# Altium footprint library 2440PCBV5_20140403.PcbLib: 166 footprints (part 1 of 11)
Each footprint in its own frame and in the unit in brackets; x right, y up, seen from the top. Pads: shape width x height; smd on the part's side, far side on the other; paste and mask are expansions set on the pad; w line width, h text height; cw(c..) or ccw(c..) is an arc to the next point about the centre after c.
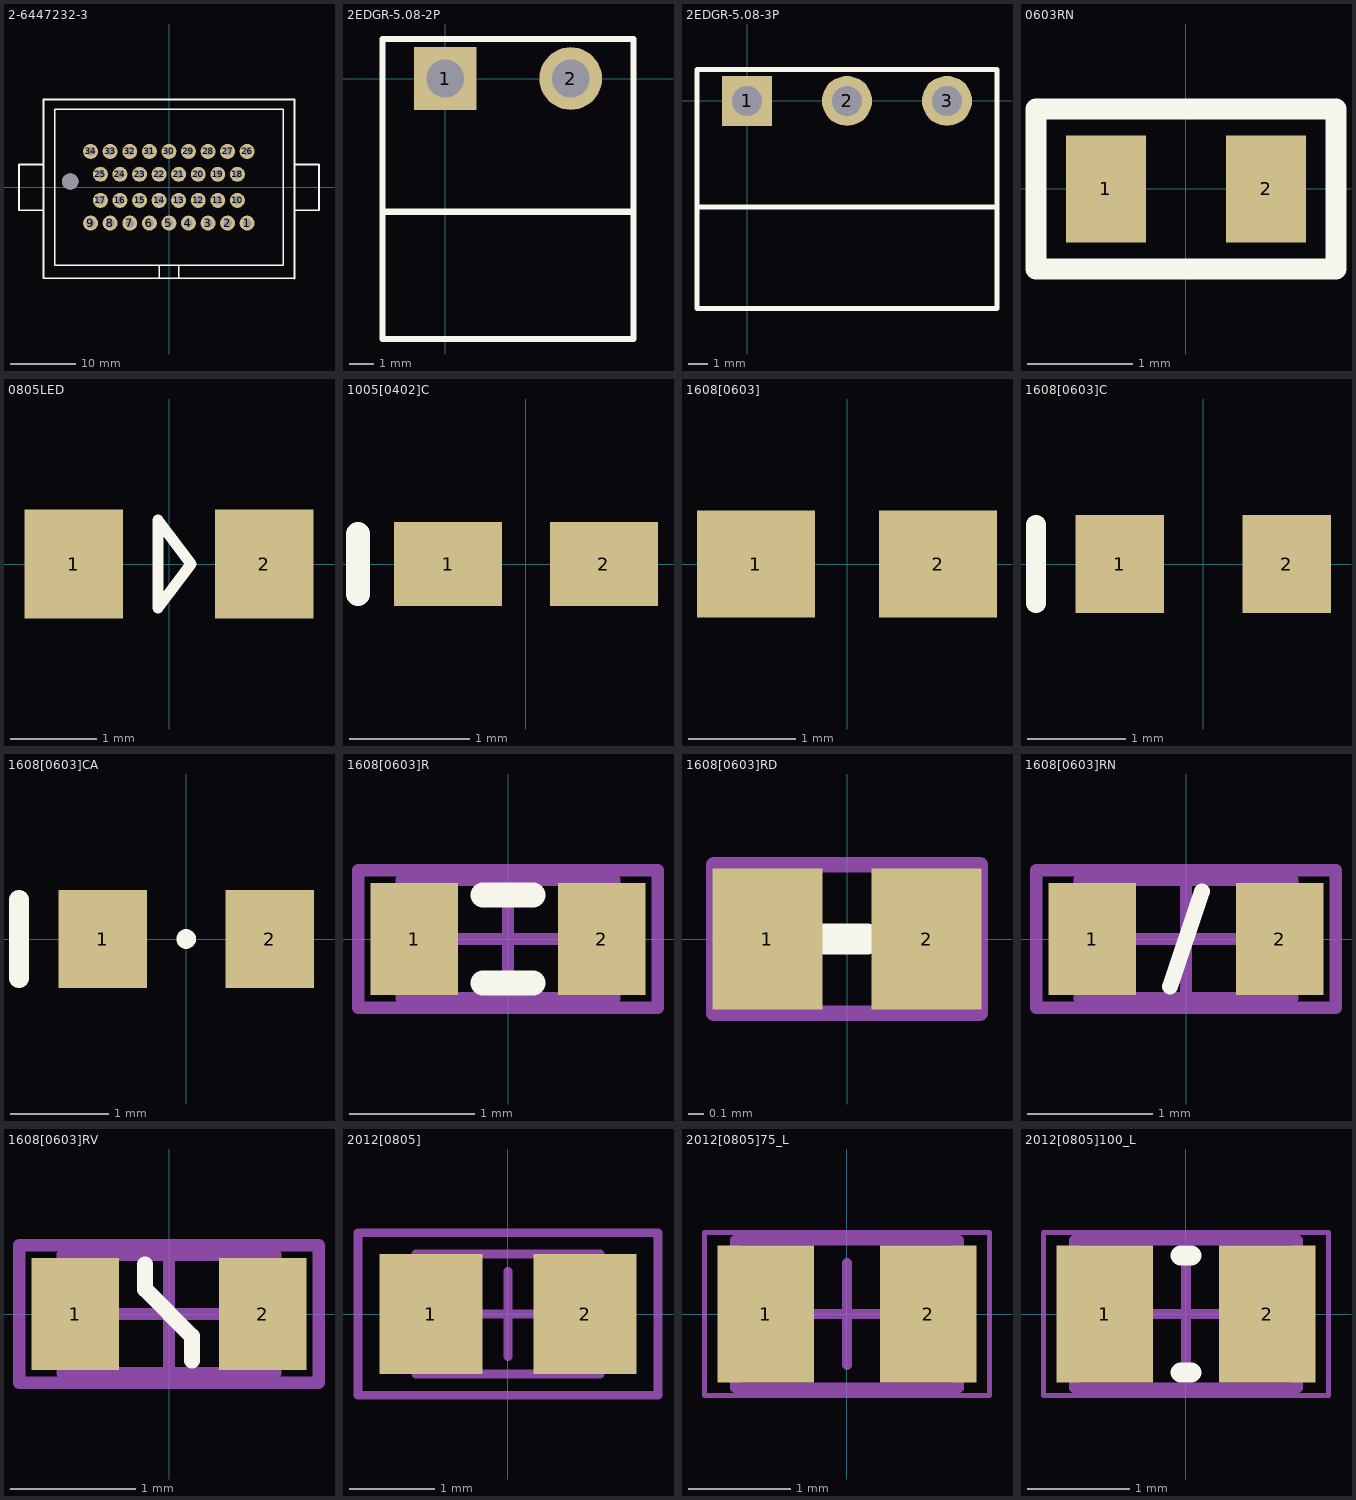
[diagram p0: the footprints below, top view; thin cyan lines are the x and y axes]

## 2-6447232-3 [mm]
pads (35):
  round 2.3 hole 1.3: 1(11.982,-5.5) 2(8.982,-5.5) 3(5.982,-5.5) 4(2.982,-5.5) 5(-0.018,-5.5) 6(-3.018,-5.5) 7(-6.018,-5.5) 8(-9.018,-5.5) 9(-12.018,-5.5) 10(10.482,-2) 11(7.482,-2) 12(4.482,-2) 13(1.482,-2) 14(-1.518,-2) 15(-4.518,-2) 16(-7.518,-2) 17(-10.518,-2) 18(10.482,2) 19(7.482,2) 20(4.482,2) 21(1.482,2) 22(-1.518,2) 23(-4.518,2) 24(-7.518,2) 25(-10.518,2) 26(11.982,5.5) 27(8.982,5.5) 28(5.982,5.5) 29(2.982,5.5) 30(-0.018,5.5) 31(-3.018,5.5) 32(-6.018,5.5) 33(-9.018,5.5) 34(-12.018,5.5)
  round 2.5 hole 2.5 unplated: ""(-15.153,0.893)
Top Overlay:
  lines w0.254: -19.25,-3.5 -23,-3.5 -23,3.5 -19.25,3.5 ; -1.518,-11.95 -1.518,-13.95 1.482,-13.95 1.482,-11.95 ; 19.233,-3.5 23,-3.5 23,3.5 19.25,3.5 ; 19.25,-13.982 19.25,13.462 -19.25,13.462 -19.25,-13.954 19.25,-13.954 ; -17.5,-11.95 17.5,-11.95 17.5,11.95 -17.5,11.95 -17.5,-11.95

## 2EDGR-5.08-2P [mil]
pads (2):
  rect 100x100 hole 60: 1(0,0)
  round 100 hole 60: 2(200,0)
Top Overlay:
  lines w10: -100,-212.6 300,-212.6 ; 299,62.99 -100,62.99 -100,-415.35 300,-415.35 300,62.99

## 2EDGR-5.08-3P [mil] "接插件"
pads (3):
  rect 100x100 hole 60: 1(0,0)
  round 100 hole 60: 2(200,0) 3(400,0)
Top Overlay:
  lines w10: -100,-212.6 500,-212.6 ; -100,-415.35 500,-415.35 500,62.99 -100,62.99 -100,-415.35

## 0603RN [mil]
pads (2):
  rect 30x40 smd: 1(-30,0) 2(30,0)
Top Overlay:
  lines w7.87: 56.14,-30.04 56.14,30 -56.14,30 -56.14,-30 56.14,-30
3D body: height 20.79, standoff 0, extent -51.64,-19.45 50.72,19.92

## 0805LED [mm]
pads (2):
  rect 1.143x1.27 smd: 1(-1.105,0) 2(1.105,0)
Top Overlay:
  lines w0.127: -0.127,-0.508 -0.127,0.508 0.254,0 -0.127,-0.508
3D body: height 0.85, standoff 0.01, extent -1.031,-0.459 1.031,0.447

## 1005[0402]C [mm] "Chip Capacitor; Body 1.0 x 0.5 mm (LxW typ)"
height 0.6
pads (2):
  rect 0.9x0.7 smd: 1(-0.65,0) 2(0.65,0)
Top Overlay:
  lines w0.2: -1.4,-0.25 -1.4,0.25

## 1608[0603] [mm] "Chip  Body 1.6x0.8mm, IPC Medium Density"
height 0.3
pads (2):
  rect 1.1x1 smd: 1(-0.85,0) 2(0.85,0)
3D body: height 0.53, standoff 0, extent -1.304,-0.501 1.296,0.499

## 1608[0603]C [mm]
height 0.85
pads (2):
  rect 0.9x1 smd: 1(-0.85,0) 2(0.85,0)
Top Overlay:
  lines w0.2: -1.7,-0.4 -1.7,0.4
3D body: height 0.89, standoff -0.01, extent -1.297,-0.499 1.303,0.5

## 1608[0603]CA [mm]
height 0.85
pads (2):
  rect 0.9x1 smd: 1(-0.85,0) 2(0.85,0)
Top Overlay:
  circle w0.1: c0,0 r0.05
  lines w0.2: -1.7,-0.4 -1.7,0.4
3D body: height 0.89, standoff -0.01, extent -1.297,-0.499 1.303,0.5

## 1608[0603]R [mm] "Chip Resistor, Body 1.6x0.8mm, IPC Medium Density"
height 0.3
pads (2):
  rect 0.7x0.9 smd: 1(-0.75,0) 2(0.75,0)
Top Overlay:
  lines w0.2: -0.2,-0.35 0.2,-0.35 ; -0.2,0.35 0.2,0.35
Mechanical 13:
  lines w0.1: -0.85,-0.475 -0.85,0.475 0.85,0.475 0.85,-0.475 -0.85,-0.475
Mechanical 15:
  lines w0.1: -0.475,0 0.475,0 ; 0,-0.475 0,0.475 ; -1.2,-0.55 -1.2,0.55 1.2,0.55 1.2,-0.55 -1.2,-0.55
3D body: height 0.45, standoff 0, extent -0.775,-0.425 0.775,0.425

## 1608[0603]RD [mm] "Chip Resistor, Body 1.6x0.8mm, IPC Medium Density"
height 0.3
pads (2):
  rect 0.7x0.9 smd: 1(-0.508,0) 2(0.508,0)
Top Overlay:
  lines w0.2: -0.146,0 0.127,0
Mechanical 13:
  lines w0.1: -0.85,-0.475 -0.85,0.475 0.85,0.475 0.85,-0.475 -0.85,-0.475
3D body: height 0.45, standoff 0, extent -0.775,-0.425 0.775,0.425

## 1608[0603]RN [mm] "Chip Resistor, Body 1.6x0.8mm, IPC Medium Density"
height 0.3
pads (2):
  rect 0.7x0.9 smd: 1(-0.75,0) 2(0.75,0)
Top Overlay:
  lines w0.127: -0.127,-0.381 0.127,0.381
Mechanical 13:
  lines w0.1: -0.85,-0.475 -0.85,0.475 0.85,0.475 0.85,-0.475 -0.85,-0.475
Mechanical 15:
  lines w0.1: -0.475,0 0.475,0 ; 0,-0.475 0,0.475 ; -1.2,-0.55 -1.2,0.55 1.2,0.55 1.2,-0.55 -1.2,-0.55
3D body: height 0.45, standoff 0, extent -0.775,-0.425 0.775,0.425

## 1608[0603]RV [mm] "Chip Resistor, Body 1.6x0.8mm, IPC Medium Density"
height 0.3
pads (2):
  rect 0.7x0.9 smd: 1(-0.75,0) 2(0.75,0)
Top Overlay:
  lines w0.127: -0.191,0.396 -0.191,0.197 0.183,-0.177 0.183,-0.371
Mechanical 13:
  lines w0.1: -0.85,-0.475 0.85,-0.475 0.85,0.475 -0.85,0.475 -0.85,-0.475
Mechanical 15:
  lines w0.1: -0.475,0 0.475,0 ; 0,-0.475 0,0.475 ; -1.2,-0.55 1.2,-0.55 1.2,0.55 -1.2,0.55 -1.2,-0.55
3D body: height 0.45, standoff 0, extent -0.775,-0.425 0.775,0.425

## 2012[0805] [mm] "Chip  Body 2.0x1.3mm, IPC Medium Density"
height 0.65
pads (2):
  rect 1.2x1.4 smd: 1(-0.9,0) 2(0.9,0)
Mechanical 13:
  lines w0.1: -1.075,-0.7 1.075,-0.7 1.075,0.7 -1.075,0.7 -1.075,-0.7
Mechanical 15:
  lines w0.1: -0.5,0 0.5,0 ; 0,-0.5 0,0.5 ; -1.75,-0.95 1.75,-0.95 1.75,0.95 -1.75,0.95 -1.75,-0.95
3D body: height 0.65, standoff 0, extent -1.075,-0.7 1.075,0.7

## 2012[0805]75_L [mm] "Chip Capacitor, Body 2.0x1.2mm, Height 0.75mm, IPC High Density"
height 0.75
pads (2):
  rect 0.95x1.35 smd: 1(-0.8,0) 2(0.8,0)
Mechanical 13:
  lines w0.1: -1.1,-0.725 -1.1,0.725 1.1,0.725 1.1,-0.725 -1.1,-0.725
Mechanical 15:
  lines w0.05: -1.4,-0.8 -1.4,0.8 1.4,0.8 1.4,-0.8 -1.4,-0.8
  lines w0.1: -0.5,0 0.5,0 ; 0,-0.5 0,0.5
3D body: height 0.75, standoff 0, extent -0.6,-0.725 0.6,0.725
3D body: height 0.75, standoff 0, extent -1.1,-0.725 -0.6,0.725
3D body: height 0.75, standoff 0, extent 0.6,-0.725 1.1,0.725

## 2012[0805]100_L [mm] "Chip Capacitor, Body 2.0x1.2mm, Height 1.0mm, IPC High Density"
height 1
pads (2):
  rect 0.95x1.35 smd: 1(-0.8,0) 2(0.8,0)
Top Overlay:
  lines w0.2: -0.05,-0.575 0.05,-0.575 ; -0.05,0.575 0.05,0.575
Mechanical 13:
  lines w0.1: -1.1,-0.725 1.1,-0.725 1.1,0.725 -1.1,0.725 -1.1,-0.725
Mechanical 15:
  lines w0.05: -1.4,-0.8 1.4,-0.8 1.4,0.8 -1.4,0.8 -1.4,-0.8
  lines w0.1: -0.5,0 0.5,0 ; 0,-0.5 0,0.5
3D body: height 1, standoff 0, extent 0.6,-0.725 1.1,0.725
3D body: height 1, standoff 0, extent -1.1,-0.725 -0.6,0.725
3D body: height 1, standoff 0, extent -0.6,-0.725 0.6,0.725